# EAGLE library part DF40C-70DP (library STEMTera)
Hirose DF40 Series 0.4mm Pitch, 1.5 to 4.0mm Height, 70 pin Board-to-Board and Board-to-FPC Connectors
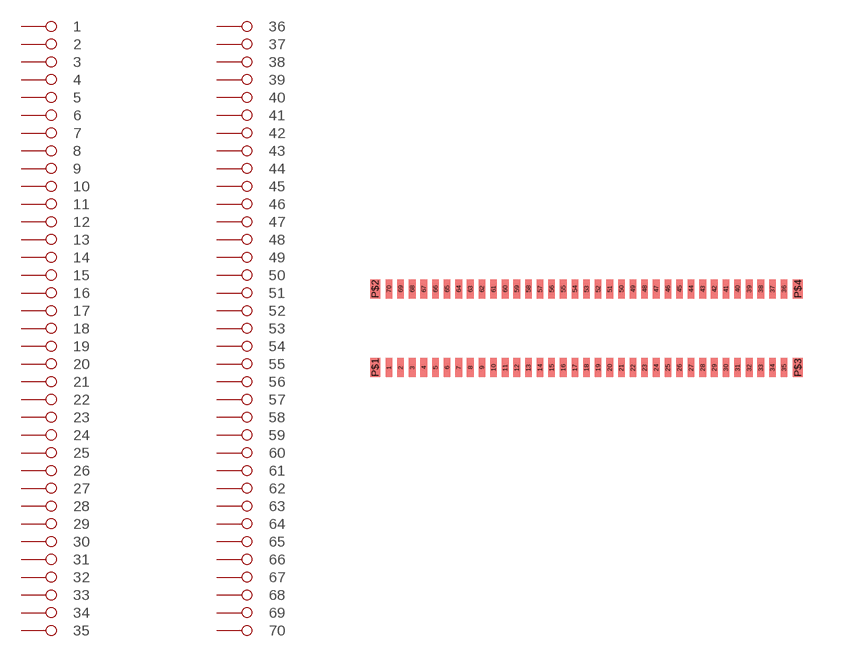
[diagram p22: symbol with the pads of DF40C-70DP; footprint DF40C-70DP]

Designator prefix -

## DF40C-70DP  [DF40C-70DP]
1  1
2  2
3  3
4  4
5  5
6  6
7  7
8  8
9  9
10  10
11  11
12  12
13  13
14  14
15  15
16  16
17  17
18  18
19  19
20  20
21  21
22  22
23  23
24  24
25  25
26  26
27  27
28  28
29  29
30  30
31  31
32  32
33  33
34  34
35  35
36  36
37  37
38  38
39  39
40  40
41  41
42  42
43  43
44  44
45  45
46  46
47  47
48  48
49  49
50  50
51  51
52  52
53  53
54  54
55  55
56  56
57  57
58  58
59  59
60  60
61  61
62  62
63  63
64  64
65  65
66  66
67  67
68  68
69  69
70  70

## Footprint DF40C-70DP (pad centres in mm)
Hirose DF40 Series Plug / Header 0.4mm Pitch, 1.5 to 4.0mm Height, 70 pin Board-to-Board and Board-to-FPC Connectors
smd 0.23 x 0.66: 1 0,0; 2 0.4,0; 3 0.8,0; 4 1.2,0; 5 1.6,0; 6 2,0; 7 2.4,0; 8 2.8,0; 9 3.2,0; 10 3.6,0; 11 4,0; 12 4.4,0; 13 4.8,0; 14 5.2,0; 15 5.6,0; 16 6,0; 17 6.4,0; 18 6.8,0; 19 7.2,0; 20 7.6,0; 21 8,0; 22 8.4,0; 23 8.8,0; 24 9.2,0; 25 9.6,0; 26 10,0; 27 10.4,0; 28 10.8,0; 29 11.2,0; 30 11.6,0; 31 12,0; 32 12.4,0; 33 12.8,0; 34 13.2,0; 35 13.6,0; 36 13.6,2.71; 37 13.2,2.71; 38 12.8,2.71; 39 12.4,2.71; 40 12,2.71; 41 11.6,2.71; 42 11.2,2.71; 43 10.8,2.71; 44 10.4,2.71; 45 10,2.71; 46 9.6,2.71; 47 9.2,2.71; 48 8.8,2.71; 49 8.4,2.71; 50 8,2.71; 51 7.6,2.71; 52 7.2,2.71; 53 6.8,2.71; 54 6.4,2.71; 55 6,2.71; 56 5.6,2.71; 57 5.2,2.71; 58 4.8,2.71; 59 4.4,2.71; 60 4,2.71; 61 3.6,2.71; 62 3.2,2.71; 63 2.8,2.71; 64 2.4,2.71; 65 2,2.71; 66 1.6,2.71; 67 1.2,2.71; 68 0.8,2.71; 69 0.4,2.71; 70 0,2.71
smd 0.35 x 0.66: P$1 -0.475,0; P$2 -0.475,2.71; P$3 14.075,0; P$4 14.075,2.71